# EAGLE library part TORX173 (library toshiba)
FIBER OPTIC RECEIVING MODULE FOR DIGITAL AUDIO EQUIPMENT, TTL Interface TORX173.pdf
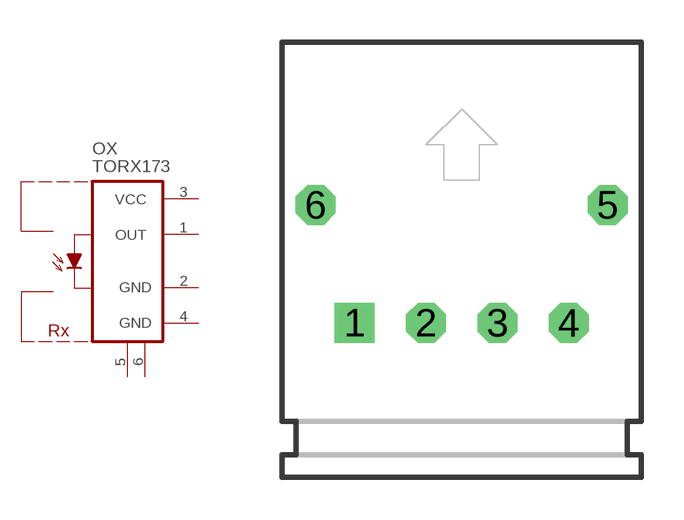
[diagram p0: symbol with the pads of TORX173; footprint TORX173]

Designator prefix OX

## TORX173  [TORX173]
1  OUT  out
2  GND1  pas
3  VCC  pwr
4  GND2  pas
5  5  pas
6  6  pas

## Footprint TORX173 (pad centres in mm)
FIBER OPTIC RECEIVING MODULE FOR DIGITAL AUDIO EQUIPMENT; TTL Interface TORX173.pdf
drill 0.61 pad 1.422 square: 1 -3.81,0
drill 0.61 pad 1.422 octagon: 2 -1.27,0; 3 1.27,0; 4 3.81,0
drill 0.711 pad 1.422 octagon: 5 5.2,4.2; 6 -5.2,4.2